# EAGLE library part BALUN (library stan)
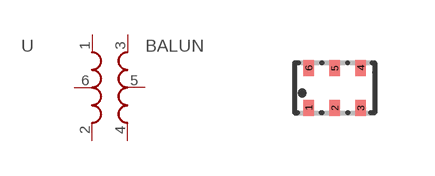
[diagram p9: symbol with the pads of BALUN; footprint BALUN]

Designator prefix -

## BALUNA  [BALUN]
1  UNBAL
2  RFGND
3  BAL3
4  BAL4
5  GND
6  NC

## Footprint BALUN (pad centres in mm)
smd 0.27 x 0.4: 1 -0.7,-0.5; 2 -0.05,-0.5; 3 0.6,-0.5; 4 0.6,0.5; 5 -0.05,0.5; 6 -0.7,0.5